# Altium footprint library ESD7104MUTAG.PcbLib: 3 footprints
Each footprint in its own frame and in the unit in brackets; x right, y up, seen from the top. Pads: shape width x height; smd on the part's side, far side on the other; paste and mask are expansions set on the pad; w line width, h text height; cw(c..) or ccw(c..) is an arc to the next point about the centre after c.
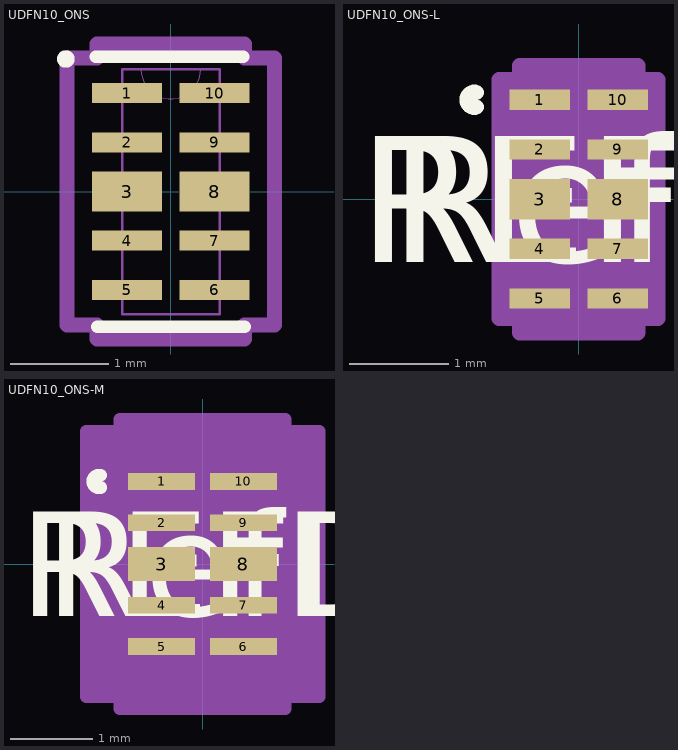
[diagram p0: the footprints below, top view; thin cyan lines are the x and y axes]

## UDFN10_ONS [mil]
pads (10):
  rect 28x8 smd paste+0 mask+0: 1(-17.5,39.37) 2(-17.5,19.68) 4(-17.5,-19.68) 5(-17.5,-39.37) 6(17.5,-39.37) 7(17.5,-19.68) 9(17.5,19.68) 10(17.5,39.37)
  rect 28x16 smd paste+0 mask+0: 3(-17.5,0) 8(17.5,0)
Top Overlay:
  circle w5: c-42,53 r1
  lines w5: -30,54 29,54 ; -29.5,-54 29.5,-54
Mechanical 13:
  lines w0: -12,49 ccw(c0,49) 12,49
  lines w1: -19.5,-49 -19.5,49 19.5,49 19.5,-49 -19.5,-49
Mechanical 15:
  lines w6: -41.5,-53.37 -29.5,-53.37 -29.5,-59 29.5,-59 29.5,-53.37 41.5,-53.37 41.5,53.37 29.5,53.37 29.5,59 -29.5,59 -29.5,53.37 -41.5,53.37 -41.5,-53.37
3D body "ESD7104MUTAG.step": height 21.65, standoff 0, extent -19.68,-49.21 19.68,49.21

## UDFN10_ONS-L [mil]
pads (10):
  rect 24x8 smd paste+0 mask+0: 1(-15.5,39.37) 2(-15.5,19.68) 4(-15.5,-19.68) 5(-15.5,-39.37) 6(15.5,-39.37) 7(15.5,-19.68) 9(15.5,19.68) 10(15.5,39.37)
  rect 24x16 smd paste+0 mask+0: 3(-15.5,0) 8(15.5,0)
Top Overlay:
  lines w6: -40.6,36.46 cw(c-41.34,39.37) -40.6,42.28
  text "RefDes" at -75,-25 h50
  text "REFDES" at -87.5,-25 h50
Mechanical 13:
  circle w6: c-3.5,39.37 r3
  lines w0: -12,49 ccw(c0,49) 12,49
  lines w1: -19.5,-49 19.5,-49 19.5,49 -19.5,49 -19.5,-49
  text "RefDes2" at -87.5,-25 h50
Mechanical 15:
  region: -23.5,-47.37 -31.5,-47.37 -31.5,47.37 -23.5,47.37 -23.5,53 23.5,53 23.5,47.37 31.5,47.37 31.5,-47.37 23.5,-47.37 23.5,-53 -23.5,-53
  lines w6: -31.5,-47.37 -31.5,47.37 -23.5,47.37 -23.5,53 23.5,53 23.5,47.37 31.5,47.37 31.5,-47.37 23.5,-47.37 23.5,-53 -23.5,-53 -23.5,-47.37 -31.5,-47.37

## UDFN10_ONS-M [mil]
pads (10):
  rect 32x8 smd paste+0 mask+0: 1(-19.5,39.37) 2(-19.5,19.68) 4(-19.5,-19.68) 5(-19.5,-39.37) 6(19.5,-39.37) 7(19.5,-19.68) 9(19.5,19.68) 10(19.5,39.37)
  rect 32x16 smd paste+0 mask+0: 3(-19.5,0) 8(19.5,0)
Top Overlay:
  lines w6: -48.6,36.46 cw(c-49.34,39.37) -48.6,42.28
  text "RefDes" at -75,-25 h50
  text "REFDES" at -87.5,-25 h50
Mechanical 13:
  circle w6: c-3.5,39.37 r3
  lines w0: -12,49 ccw(c0,49) 12,49
  lines w1: -19.5,-49 19.5,-49 19.5,49 -19.5,49 -19.5,-49
  text "RefDes2" at -87.5,-25 h50
Mechanical 15:
  region: -39.5,-63.37 -55.5,-63.37 -55.5,63.37 -39.5,63.37 -39.5,69 39.5,69 39.5,63.37 55.5,63.37 55.5,-63.37 39.5,-63.37 39.5,-69 -39.5,-69
  lines w6: -55.5,-63.37 -55.5,63.37 -39.5,63.37 -39.5,69 39.5,69 39.5,63.37 55.5,63.37 55.5,-63.37 39.5,-63.37 39.5,-69 -39.5,-69 -39.5,-63.37 -55.5,-63.37